# Altium integrated library Zarlink Comm Subscriber Line Circuit.IntLib: 15 symbols
Pins are listed as number, name and electrical type; pins without a type are passive.

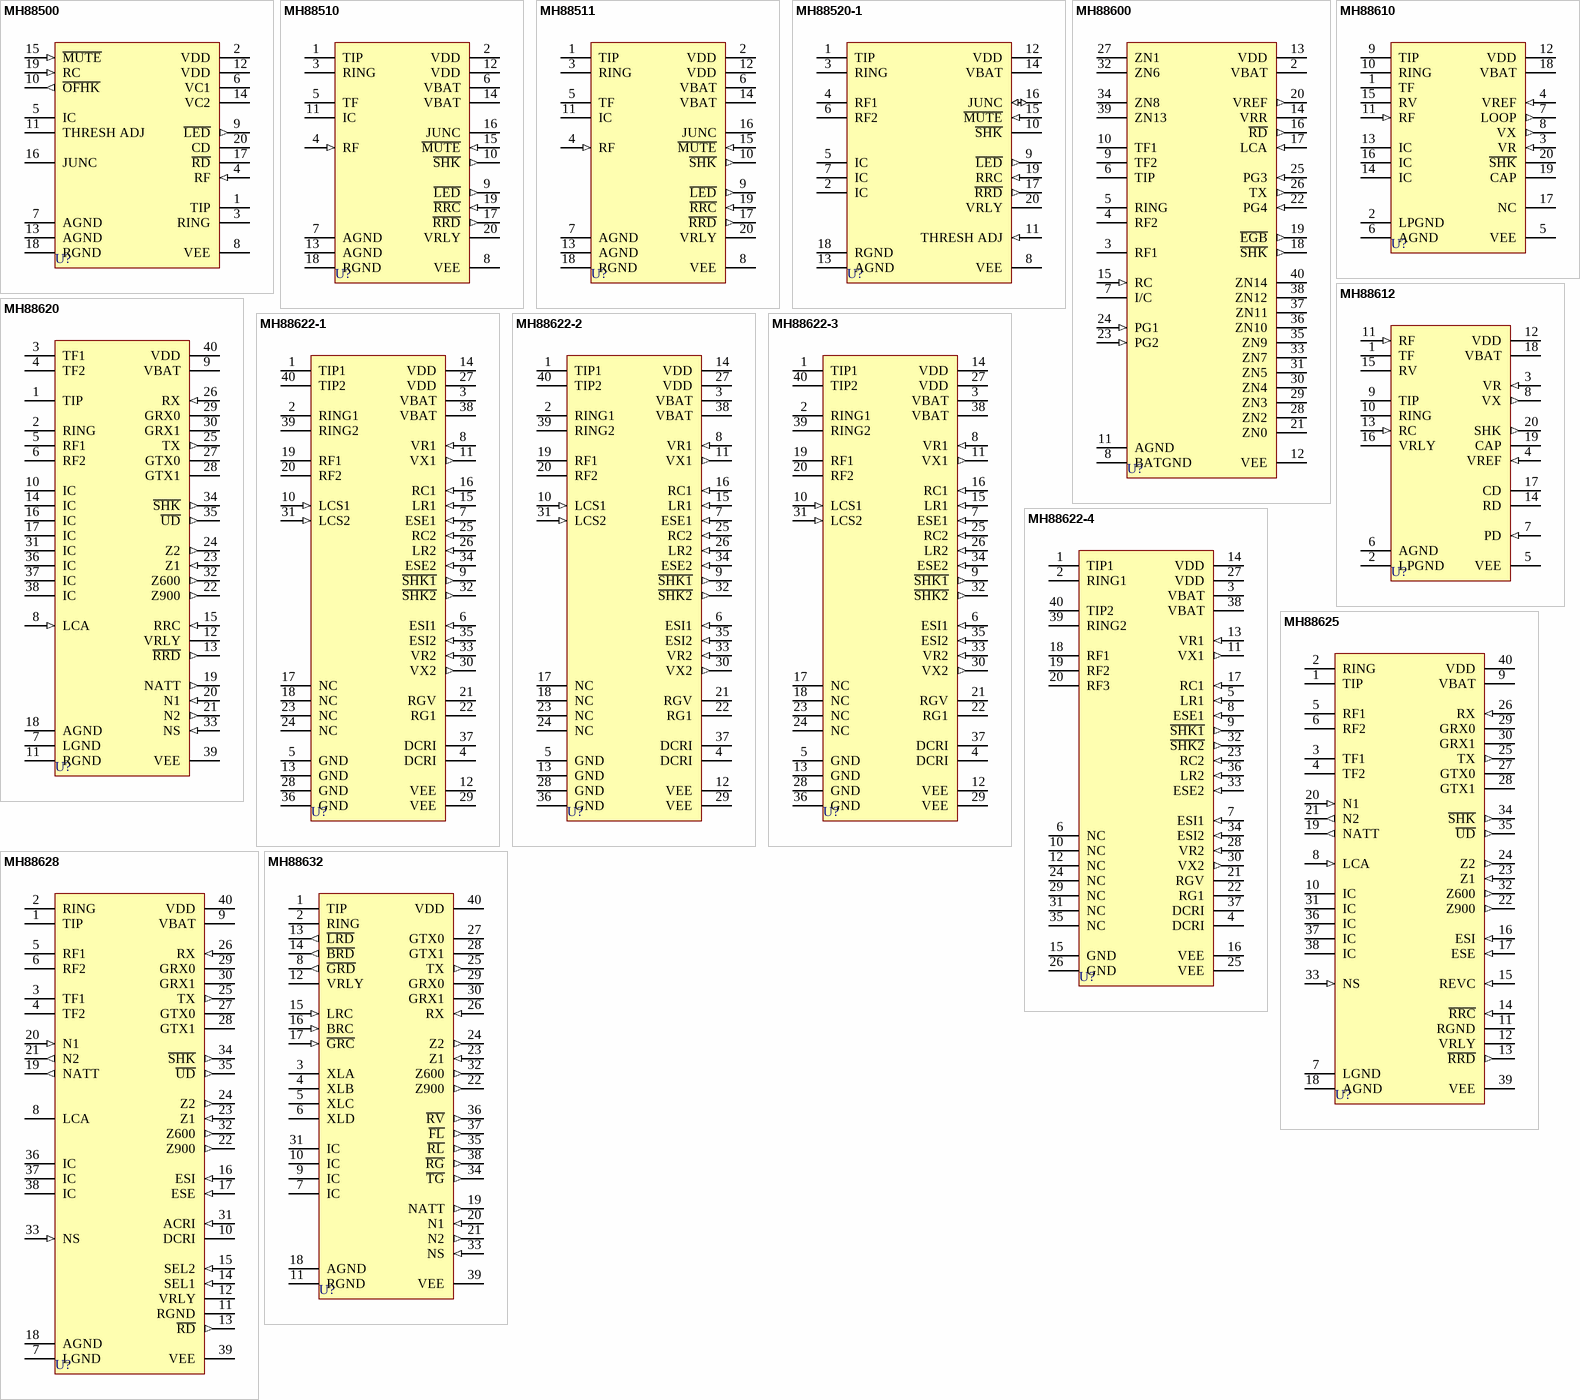
[diagram p0: symbols MH88500 to MH88632]

## MH88500
designator U?
Hybrid Subscriber Line Interface Circuit (SLIC); Note: Pin 5 should be left unconnected; ComponentAvailability: Obsolete; Published: 8-Jun-2000; LatestRevisionDate: 17-Jul-2002; LatestRevisionNote: Re-released for DXP Platform.; DatasheetVersion: Issue 5 April 1995; PackageVersion: Apr-1995; PackageReference: SIL20; Publisher: Altium Limited; PackageDescription: SIP; 20 Leads; Body 50.8 x 4.6 mm (LxW typ); Pitch 2.54 mm; ComponentLink1Description: Manufacturer Link; ComponentLink1URL: http://www.zarlink.com/; ComponentLink2Description: Datasheet; ComponentLink2URL: http://assets.zarlink.com/DS/zarlink_MH88500_JAN_02.pdf
footprint SIL20 (SIP; 20 Leads; Body 50.8 x 4.6 mm (LxW typ); Pitch 2.54 mm)
pins: 1 TIP, 2 VDD (power), 3 RING, 4 RF (in), 5 IC, 6 VC1 (power), 7 AGND (power), 8 VEE (power), 9 ~{LED} (out), 10 ~{OFHK} (out), 11 THRESH ADJ, 12 VDD (power), 13 AGND (power), 14 VC2 (power), 15 ~{MUTE} (in), 16 JUNC, 17 ~{RD} (oc), 18 RGND (power), 19 RC (in), 20 CD

## MH88510
designator U?
Subscriber Line Interface Circuit (SLIC); Note: Pin 5 (TF) should be left unconnected; pin 11 is internally connected.; Published: 8-Jun-2000; LatestRevisionDate: 17-Jul-2002; LatestRevisionNote: Re-released for DXP Platform.; DatasheetVersion: Issue 1 April 1995; PackageVersion: Apr-1995; PackageReference: SIL20; Publisher: Altium Limited; PackageDescription: SIP; 20 Leads; Body 50.8 x 4.6 mm (LxW typ); Pitch 2.54 mm; ComponentLink1Description: Manufacturer Link; ComponentLink1URL: http://www.zarlink.com/
footprint SIL20 (SIP; 20 Leads; Body 50.8 x 4.6 mm (LxW typ); Pitch 2.54 mm)
pins: 1 TIP, 2 VDD (power), 3 RING, 4 RF (in), 5 TF, 6 VBAT (power), 7 AGND (power), 8 VEE (power), 9 ~{LED} (out), 10 ~{SHK} (out), 11 IC, 12 VDD (power), 13 AGND (power), 14 VBAT (power), 15 ~{MUTE} (in), 16 JUNC, 17 ~{RRD} (out), 18 RGND (power), 19 ~{RRC} (in), 20 VRLY

## MH88511
designator U?
Subscriber Line Interface Circuit (SLIC); Note: Pin 5 (TF) should be left unconnected; pin 11 is internally connected.; ComponentAvailability: Obsolete; Published: 8-Jun-2000; LatestRevisionDate: 17-Jul-2002; LatestRevisionNote: Re-released for DXP Platform.; DatasheetVersion: Issue 1 April 1995; PackageVersion: Apr-1995; PackageReference: SIL20; Publisher: Altium Limited; PackageDescription: SIP; 20 Leads; Body 50.8 x 4.6 mm (LxW typ); Pitch 2.54 mm; ComponentLink1Description: Manufacturer Link; ComponentLink1URL: http://www.zarlink.com/; ComponentLink2Description: Datasheet; ComponentLink2URL: http://assets.zarlink.com/DS/zarlink_MH88511_JAN_97.pdf
footprint SIL20 (SIP; 20 Leads; Body 50.8 x 4.6 mm (LxW typ); Pitch 2.54 mm)
pins: 1 TIP, 2 VDD (power), 3 RING, 4 RF (in), 5 TF, 6 VBAT (power), 7 AGND (power), 8 VEE (power), 9 ~{LED} (out), 10 ~{SHK} (out), 11 IC, 12 VDD (power), 13 AGND (power), 14 VBAT (power), 15 ~{MUTE} (in), 16 JUNC, 17 ~{RRD} (out), 18 RGND (power), 19 ~{RRC} (in), 20 VRLY

## MH88520-1
designator U?
German Subscriber Line Interface Circuit (SLIC); Note: Pins 2, 5 and 7 should be left unconnected.; Published: 8-Jun-2000; LatestRevisionDate: 17-Jul-2002; LatestRevisionNote: Re-released for DXP Platform.; DatasheetVersion: Issue 4 April 1995; PackageVersion: Apr-1995; PackageReference: SIL20; Publisher: Altium Limited; PackageDescription: SIP; 20 Leads; Body 50.8 x 4.6 mm (LxW typ); Pitch 2.54 mm; ComponentLink1Description: Manufacturer Link; ComponentLink1URL: http://www.zarlink.com/
footprint SIL20 (SIP; 20 Leads; Body 50.8 x 4.6 mm (LxW typ); Pitch 2.54 mm)
pins: 1 TIP, 2 IC, 3 RING, 4 RF1, 5 IC, 6 RF2, 7 IC, 8 VEE (power), 9 ~{LED} (out), 10 ~{SHK} (oc), 11 THRESH ADJ (in), 12 VDD (power), 13 AGND (power), 14 VBAT (power), 15 ~{MUTE} (in), 16 JUNC (io), 17 ~{RRD} (out), 18 RGND (power), 19 RRC (in), 20 VRLY (power)

## MH88600
designator U?
Global SLIC; Note: Pin 1 is not present.; Published: 8-Jun-2000; LatestRevisionDate: 17-Jul-2002; LatestRevisionNote: Re-released for DXP Platform.; DatasheetVersion: Issue 7 April 1995; PackageReference: DIL40; Publisher: Altium Limited; PackageDescription: DIP; 40 Leads (1 Absent); Row Spacing 25.4 mm; Pitch 2.54 mm; ComponentLink1Description: Manufacturer Link; ComponentLink1URL: http://www.zarlink.com/
footprint DIL40 (DIP; 40 Leads (1 Absent); Row Spacing 25.4 mm; Pitch 2.54 mm)
pins: 2 VBAT (power), 3 RF1, 4 RF2, 5 RING, 6 TIP, 7 I/C, 8 BATGND (power), 9 TF2, 10 TF1, 11 AGND (power), 12 VEE (power), 13 VDD (power), 14 VRR, 15 RC (in), 16 ~{RD} (out), 17 LCA (in), 18 ~{SHK} (out), 19 ~{EGB} (out), 20 VREF (out), 21 ZN0, 22 PG4 (in), 23 PG2 (in), 24 PG1 (in), 25 PG3 (in), 26 TX (out), 27 ZN1, 28 ZN2, 29 ZN3, 30 ZN4, 31 ZN5, 32 ZN6, 33 ZN7, 34 ZN8, 35 ZN9, 36 ZN10, 37 ZN11, 38 ZN12, 39 ZN13, 40 ZN14

## MH88610
designator U?
Subscriber Line Interface Circuit (SLIC); Note: Pins 13, 14 and 16 are cut short.; Published: 8-Jun-2000; LatestRevisionDate: 17-Jul-2002; LatestRevisionNote: Re-released for DXP Platform.; DatasheetVersion: Issue 6 April 1995; PackageVersion: Apr-1995; PackageReference: SIL20; Publisher: Altium Limited; PackageDescription: SIP; 20 Leads; Body 50.8 x 4.6 mm (LxW typ); Pitch 2.54 mm; ComponentLink1Description: Manufacturer Link; ComponentLink1URL: http://www.zarlink.com/
footprint SIL20 (SIP; 20 Leads; Body 50.8 x 4.6 mm (LxW typ); Pitch 2.54 mm)
pins: 1 TF, 2 LPGND (power), 3 VR (in), 4 VREF (in), 5 VEE (power), 6 AGND (power), 7 LOOP (out), 8 VX (out), 9 TIP, 10 RING, 11 RF (in), 12 VDD (power), 13 IC, 14 IC, 15 RV, 16 IC, 17 NC, 18 VBAT (power), 19 CAP, 20 ~{SHK} (oc)

## MH88612
designator U?
Subscriber Line Interface Circuit (SLIC); Published: 8-Jun-2000; LatestRevisionDate: 17-Jul-2002; LatestRevisionNote: Re-released for DXP Platform.; DatasheetVersion: Issue 4 April 1995; PackageVersion: Apr-1995; PackageReference: SIL20A; Publisher: Altium Limited; PackageDescription: SIP; 20 Leads; Body 50.8 x 4.6 mm (LxW typ); Pitch 2.54 mm; ComponentLink1Description: Manufacturer Link; ComponentLink1URL: http://www.zarlink.com/
footprint SIL20A (SIP; 20 Leads; Body 50.8 x 4.6 mm (LxW typ); Pitch 2.54 mm)
pins: 1 TF, 2 LPGND (power), 3 VR (in), 4 VREF (in), 5 VEE (power), 6 AGND (power), 7 PD (in), 8 VX (out), 9 TIP, 10 RING, 11 RF (in), 12 VDD (power), 13 RC (in), 14 RD (oc), 15 RV, 16 VRLY (power), 17 CD, 18 VBAT (power), 19 CAP, 20 SHK (out)

## MH88620
designator U?
OPS (DID) SLIC; Note: Pins 10 and 31 should be left unconnected.; Published: 8-Jun-2000; LatestRevisionDate: 17-Jul-2002; LatestRevisionNote: Re-released for DXP Platform.; DatasheetVersion: Issue 5 January 1994; PackageVersion: Jan-1994; PackageReference: SIL40B; Publisher: Altium Limited; PackageDescription: SIP; 40 Leads; Body 107 x 8.4 mm (LxW typ); Pitch 2.54 mm; ComponentLink1Description: Manufacturer Link; ComponentLink1URL: http://www.zarlink.com/
footprint SIL40B (SIP; 40 Leads; Body 107 x 8.4 mm (LxW typ); Pitch 2.54 mm)
pins: 1 TIP, 2 RING, 3 TF1, 4 TF2, 5 RF1, 6 RF2, 7 LGND (power), 8 LCA (in), 9 VBAT (power), 10 IC, 11 RGND (power), 12 VRLY (power), 13 ~{RRD} (out), 14 IC, 15 RRC (in), 16 IC, 17 IC, 18 AGND (power), 19 NATT (out), 20 N1 (in), 21 N2 (out), 22 Z900 (out), 23 Z1 (in), 24 Z2 (out), 25 TX (out), 26 RX (in), 27 GTX0, 28 GTX1, 29 GRX0, 30 GRX1, 31 IC, 32 Z600 (out), 33 NS (in), 34 ~{SHK} (out), 35 ~{UD} (out), 36 IC, 37 IC, 38 IC, 39 VEE (power), 40 VDD (power)

## MH88622-1
designator U?
Dual OPS SLIC; Note: Pins 17, 18, 23 and 24 should be left unconnected; Published: 8-Jun-2000; LatestRevisionDate: 17-Jul-2002; LatestRevisionNote: Re-released for DXP Platform.; DatasheetVersion: Issue 3 April 1995; PackageVersion: Apr-1995; PackageReference: SIL40C; Publisher: Altium Limited; PackageDescription: SIP; 40 Leads; Body 107 x 12.8 mm (LxW typ); Pitch 2.54 mm; ComponentLink1Description: Manufacturer Link; ComponentLink1URL: http://www.zarlink.com/
footprint SIL40C (SIP; 40 Leads; Body 107 x 12.8 mm (LxW typ); Pitch 2.54 mm)
pins: 1 TIP1, 2 RING1, 3 VBAT (power), 4 DCRI (power), 5 GND (power), 6 ESI1 (in), 7 ESE1 (in), 8 VR1 (in), 9 ~{SHK1} (out), 10 LCS1 (in), 11 VX1 (out), 12 VEE (power), 13 GND (power), 14 VDD (power), 15 LR1 (in), 16 RC1 (in), 17 NC, 18 NC, 19 RF1, 20 RF2, 21 RGV, 22 RG1, 23 NC, 24 NC, 25 RC2 (in), 26 LR2 (in), 27 VDD (power), 28 GND (power), 29 VEE (power), 30 VX2 (out), 31 LCS2 (in), 32 ~{SHK2} (out), 33 VR2 (in), 34 ESE2 (in), 35 ESI2 (in), 36 GND (power), 37 DCRI (power), 38 VBAT (power), 39 RING2, 40 TIP2

## MH88622-2
designator U?
Dual OPS SLIC; Note: Pins 17, 18, 23 and 24 should be left unconnected; Published: 8-Jun-2000; LatestRevisionDate: 17-Jul-2002; LatestRevisionNote: Re-released for DXP Platform.; DatasheetVersion: Issue 3 April 1995; PackageVersion: Apr-1995; PackageReference: SIL40C; Publisher: Altium Limited; PackageDescription: SIP; 40 Leads; Body 107 x 12.8 mm (LxW typ); Pitch 2.54 mm; ComponentLink1Description: Manufacturer Link; ComponentLink1URL: http://www.zarlink.com/
footprint SIL40C (SIP; 40 Leads; Body 107 x 12.8 mm (LxW typ); Pitch 2.54 mm)
pins: 1 TIP1, 2 RING1, 3 VBAT (power), 4 DCRI (power), 5 GND (power), 6 ESI1 (in), 7 ESE1 (in), 8 VR1 (in), 9 ~{SHK1} (out), 10 LCS1 (in), 11 VX1 (out), 12 VEE (power), 13 GND (power), 14 VDD (power), 15 LR1 (in), 16 RC1 (in), 17 NC, 18 NC, 19 RF1, 20 RF2, 21 RGV, 22 RG1, 23 NC, 24 NC, 25 RC2 (in), 26 LR2 (in), 27 VDD (power), 28 GND (power), 29 VEE (power), 30 VX2 (out), 31 LCS2 (in), 32 ~{SHK2} (out), 33 VR2 (in), 34 ESE2 (in), 35 ESI2 (in), 36 GND (power), 37 DCRI (power), 38 VBAT (power), 39 RING2, 40 TIP2

## MH88622-3
designator U?
Dual OPS SLIC; Note: Pins 17, 18, 23 and 24 should be left unconnected; Published: 8-Jun-2000; LatestRevisionDate: 17-Jul-2002; LatestRevisionNote: Re-released for DXP Platform.; DatasheetVersion: Issue 3 April 1995; PackageVersion: Apr-1995; PackageReference: SIL40C; Publisher: Altium Limited; PackageDescription: SIP; 40 Leads; Body 107 x 12.8 mm (LxW typ); Pitch 2.54 mm; ComponentLink1Description: Manufacturer Link; ComponentLink1URL: http://www.zarlink.com/
footprint SIL40C (SIP; 40 Leads; Body 107 x 12.8 mm (LxW typ); Pitch 2.54 mm)
pins: 1 TIP1, 2 RING1, 3 VBAT (power), 4 DCRI (power), 5 GND (power), 6 ESI1 (in), 7 ESE1 (in), 8 VR1 (in), 9 ~{SHK1} (out), 10 LCS1 (in), 11 VX1 (out), 12 VEE (power), 13 GND (power), 14 VDD (power), 15 LR1 (in), 16 RC1 (in), 17 NC, 18 NC, 19 RF1, 20 RF2, 21 RGV, 22 RG1, 23 NC, 24 NC, 25 RC2 (in), 26 LR2 (in), 27 VDD (power), 28 GND (power), 29 VEE (power), 30 VX2 (out), 31 LCS2 (in), 32 ~{SHK2} (out), 33 VR2 (in), 34 ESE2 (in), 35 ESI2 (in), 36 GND (power), 37 DCRI (power), 38 VBAT (power), 39 RING2, 40 TIP2

## MH88622-4
designator U?
Pair Gain SLIC; Published: 8-Jun-2000; LatestRevisionDate: 17-Jul-2002; LatestRevisionNote: Re-released for DXP Platform.; DatasheetVersion: Jan-1994; PackageReference: SIL40D; Publisher: Altium Limited; PackageDescription: SIP; 40 Leads; Body 107 x 12.3 mm (LxW typ); Pitch 2.54 mm; ComponentLink1Description: Manufacturer Link; ComponentLink1URL: http://www.zarlink.com/
footprint SIL40D (SIP; 40 Leads; Body 107 x 12.3 mm (LxW typ); Pitch 2.54 mm)
pins: 1 TIP1, 2 RING1, 3 VBAT (power), 4 DCRI (power), 5 LR1 (in), 6 NC, 7 ESI1 (in), 8 ESE1 (in), 9 ~{SHK1} (out), 10 NC, 11 VX1 (out), 12 NC, 13 VR1 (in), 14 VDD (power), 15 GND (power), 16 VEE (power), 17 RC1 (in), 18 RF1, 19 RF2, 20 RF3, 21 RGV, 22 RG1, 23 RC2 (in), 24 NC, 25 VEE (power), 26 GND (power), 27 VDD (power), 28 VR2 (in), 29 NC, 30 VX2 (out), 31 NC, 32 ~{SHK2} (out), 33 ESE2 (in), 34 ESI2 (in), 35 NC, 36 LR2 (in), 37 DCRI (power), 38 VBAT (power), 39 RING2, 40 TIP2

## MH88625
designator U?
DID/OPS SLIC; Note: Pins 10, 31, 36, 37 and 38 should be left unconnected; Published: 8-Jun-2000; LatestRevisionDate: 17-Jul-2002; LatestRevisionNote: Re-released for DXP Platform.; DatasheetVersion: Issue 6 April 1995; PackageVersion: Apr-1995; PackageReference: SIL40A; Publisher: Altium Limited; PackageDescription: SIP; 40 Leads; Body 107 x 4.6 mm (LxW typ); Pitch 2.54 mm; ComponentLink1Description: Manufacturer Link; ComponentLink1URL: http://www.zarlink.com/
footprint SIL40A (SIP; 40 Leads; Body 107 x 4.6 mm (LxW typ); Pitch 2.54 mm)
pins: 1 TIP, 2 RING, 3 TF1, 4 TF2, 5 RF1, 6 RF2, 7 LGND (power), 8 LCA (in), 9 VBAT (power), 10 IC, 11 RGND (power), 12 VRLY (power), 13 ~{RRD} (out), 14 ~{RRC} (in), 15 REVC (in), 16 ESI (in), 17 ESE (in), 18 AGND (power), 19 NATT (out), 20 N1 (in), 21 N2 (out), 22 Z900 (out), 23 Z1 (in), 24 Z2 (out), 25 TX (out), 26 RX (in), 27 GTX0, 28 GTX1, 29 GRX0, 30 GRX1, 31 IC, 32 Z600 (out), 33 NS (in), 34 ~{SHK} (out), 35 ~{UD} (out), 36 IC, 37 IC, 38 IC, 39 VEE (power), 40 VDD (power)

## MH88628
designator U?
Central Office SLIC; Note: Pins 36-38 are connected internally and should be left open.; Published: 8-Jun-2000; LatestRevisionDate: 17-Jul-2002; LatestRevisionNote: Re-released for DXP Platform.; DatasheetVersion: Issue 5 April 1995; PackageVersion: Apr-1995; PackageReference: SIL40; Publisher: Altium Limited; PackageDescription: SIP; 40 Leads; Body 107 x 4.6 mm (LxW typ); Pitch 2.54 mm; ComponentLink1Description: Manufacturer Link; ComponentLink1URL: http://www.zarlink.com/; ComponentLink2Description: Datasheet; ComponentLink2URL: http://assets.zarlink.com/DS/zarlink_MH88628_JAN_02.pdf
footprint SIL40 (SIP; 40 Leads; Body 107 x 4.6 mm (LxW typ); Pitch 2.54 mm)
pins: 1 TIP, 2 RING, 3 TF1, 4 TF2, 5 RF1, 6 RF2, 7 LGND (power), 8 LCA, 9 VBAT (power), 10 DCRI (power), 11 RGND (power), 12 VRLY (power), 13 ~{RD} (out), 14 SEL1 (in), 15 SEL2 (in), 16 ESI (in), 17 ESE (in), 18 AGND (power), 19 NATT (out), 20 N1 (in), 21 N2 (out), 22 Z900 (out), 23 Z1 (in), 24 Z2 (out), 25 TX (out), 26 RX (in), 27 GTX0, 28 GTX1, 29 GRX0, 30 GRX1, 31 ACRI (in), 32 Z600 (out), 33 NS (in), 34 ~{SHK} (out), 35 ~{UD} (out), 36 IC, 37 IC, 38 IC, 39 VEE (power), 40 VDD (power)

## MH88632
designator U?
Central Office Interface Circuit; Note: Pins 7, 9, 10 and 31 should be left unconnected.; Published: 8-Jun-2000; LatestRevisionDate: 17-Jul-2002; LatestRevisionNote: Re-released for DXP Platform.; DatasheetVersion: Issue 5 April 1995; PackageVersion: Apr-1995; PackageReference: SIL40A; Publisher: Altium Limited; PackageDescription: SIP; 40 Leads; Body 107 x 4.6 mm (LxW typ); Pitch 2.54 mm; ComponentLink1Description: Manufacturer Link; ComponentLink1URL: http://www.zarlink.com/
footprint SIL40A (SIP; 40 Leads; Body 107 x 4.6 mm (LxW typ); Pitch 2.54 mm)
pins: 1 TIP, 2 RING, 3 XLA, 4 XLB, 5 XLC, 6 XLD, 7 IC, 8 ~{GRD} (out), 9 IC, 10 IC, 11 RGND (power), 12 VRLY (power), 13 ~{LRD} (out), 14 ~{BRD} (out), 15 LRC (in), 16 BRC (in), 17 ~{GRC} (in), 18 AGND (power), 19 NATT (out), 20 N1 (in), 21 N2 (out), 22 Z900 (out), 23 Z1 (in), 24 Z2 (out), 25 TX (out), 26 RX (in), 27 GTX0, 28 GTX1, 29 GRX0, 30 GRX1, 31 IC, 32 Z600 (out), 33 NS (in), 34 ~{TG} (out), 35 ~{RL} (out), 36 ~{RV} (out), 37 ~{FL} (out), 38 ~{RG} (out), 39 VEE (power), 40 VDD (power)